# Altium footprint library PaHoy2.PcbLib: 16 footprints
Each footprint in its own frame and in the unit in brackets; x right, y up, seen from the top. Pads: shape width x height; smd on the part's side, far side on the other; paste and mask are expansions set on the pad; w line width, h text height; cw(c..) or ccw(c..) is an arc to the next point about the centre after c.
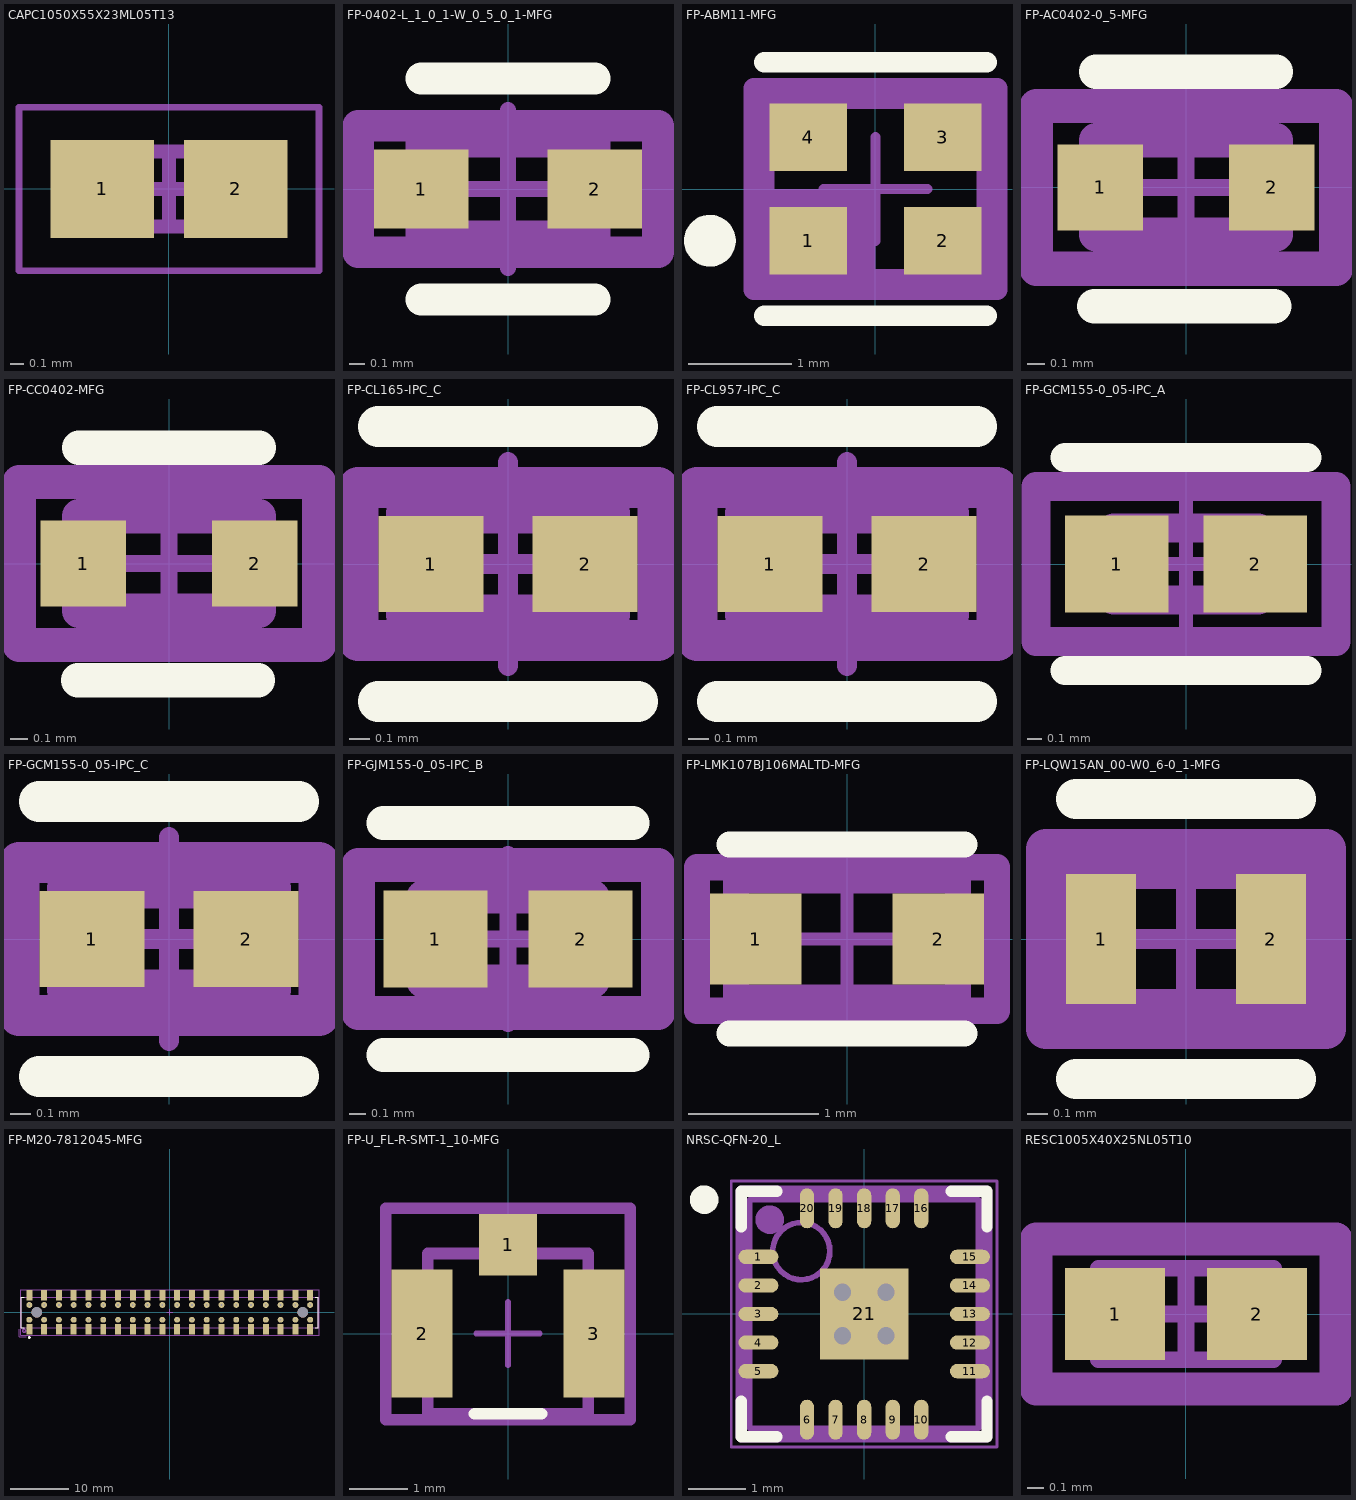
[diagram p0: the footprints below, top view; thin cyan lines are the x and y axes]

## CAPC1050X55X23ML05T13 [mm] "Chip Capacitor, 2-Leads, Body 1.05x0.55mm, IPC Low Density"
height 0.55
pads (2):
  rect 0.76x0.72 smd: 1(-0.49,0) 2(0.49,0)
Mechanical 13:
  lines w0.1: -0.525,-0.275 0.525,-0.275 0.525,0.275 -0.525,0.275 -0.525,-0.275
Mechanical 15:
  lines w0.05: -1.1,-0.6 1.1,-0.6 1.1,0.6 -1.1,0.6 -1.1,-0.6
  lines w0.1: -0.275,0 0.275,0 ; 0,-0.275 0,0.275
3D body: height 0.55, standoff 0, extent 0.295,-0.275 0.525,0.275
3D body: height 0.55, standoff 0, extent -0.525,-0.275 -0.295,0.275
3D body: height 0.55, standoff 0, extent -0.295,-0.275 0.295,0.275

## FP-0402-L_1_0_1-W_0_5_0_1-MFG [mm]
pads (2):
  rect 0.6x0.5 smd paste+0 mask+0: 1(-0.55,0) 2(0.55,0)
Top Overlay:
  lines w0.2: -0.55,-0.7 0.55,-0.7 ; -0.55,0.7 0.55,0.7
Top 3D Body:
  lines w0.2: -0.55,-0.3 0.55,-0.3 0.55,0.3 -0.55,0.3 -0.55,-0.3
Top Courtyard:
  lines w0.2: -0.95,-0.4 0.95,-0.4 0.95,0.4 -0.95,0.4 -0.95,-0.4
Top Assembly:
  lines w0.2: -0.95,-0.4 0.95,-0.4 0.95,0.4 -0.95,0.4 -0.95,-0.4
  text ".Designator" at -2.253,-0.213 h1
Top Component Center:
  lines w0.1: -0.5,0 0.5,0 ; 0,-0.5 0,0.5
3D body "Cap_AVX_04025C472KAT2A_eec.STEP": height 0.56, standoff 0, extent -0.5,-0.25 0.5,0.25

## FP-ABM11-MFG [mm]
pads (4):
  rect 0.75x0.65 smd paste+0 mask+0: 1(-0.65,-0.5) 2(0.65,-0.5) 3(0.65,0.5) 4(-0.65,0.5)
Top Overlay:
  circle w0.25: c-1.6,-0.5 r0.125
  lines w0.2: -1.075,-1.225 1.075,-1.225 ; -1.075,1.225 1.075,1.225
Top 3D Body:
  lines w0.2: -1.075,-0.875 1.075,-0.875 1.075,0.875 -1.075,0.875 -1.075,-0.875
Top Courtyard:
  lines w0.2: -1.175,-0.975 1.175,-0.975 1.175,0.975 -1.175,0.975 -1.175,-0.975
Top Assembly:
  circle w0.25: c-0.762,-0.508 r0.125
  lines w0.2: -1.175,-0.975 1.175,-0.975 1.175,0.975 -1.175,0.975 -1.175,-0.975
  text ".Designator" at -2.253,0.187 h1
Mechanical 13:
  rectangle: -1.175,-0.975 0,0
  lines w0.2: -1.175,-0.975 -1.175,0.975 1.175,0.975 1.175,-0.975 -1.175,-0.975
Top Component Center:
  lines w0.1: -0.5,0 0.5,0 ; 0,-0.5 0,0.5
3D body "Crys_Abracon_ABM11-44_000MHZ-B7G-T_eec.STEP": height 0.59, standoff 0, extent -1,-0.8 1,0.8

## FP-AC0402-0_5-MFG [mm]
pads (2):
  rect 0.5x0.5 smd paste+0 mask+0: 1(-0.5,0) 2(0.5,0)
Top Overlay:
  lines w0.2: -0.536,-0.693 0.514,-0.693 ; -0.525,0.675 0.525,0.675
Top 3D Body:
  lines w0.2: -0.525,-0.275 -0.525,0.275 0.525,0.275 0.525,-0.275 -0.525,-0.275
Top Courtyard:
  lines w0.2: -0.875,-0.475 -0.875,0.475 0.875,0.475 0.875,-0.475 -0.875,-0.475
Top Assembly:
  lines w0.2: -0.875,-0.475 -0.875,0.475 0.875,0.475 0.875,-0.475 -0.875,-0.475
  text ".Designator" at -2.253,-0.288 h1
Top Component Center:
  lines w0.1: -0.5,0 0.5,0 ; 0,-0.5 0,0.5
3D body "Cap_Yageo_AC0402KRX7R7BB471_eec.STEP": height 0.55, standoff 0, extent -0.5,-0.25 0.5,0.25

## FP-CC0402-MFG [mm]
pads (2):
  rect 0.5x0.5 smd paste+0 mask+0: 1(-0.5,0) 2(0.5,0)
Top Overlay:
  lines w0.2: -0.53,-0.681 0.52,-0.681 ; -0.525,0.675 0.525,0.675
Top 3D Body:
  lines w0.2: -0.525,-0.275 0.525,-0.275 0.525,0.275 -0.525,0.275 -0.525,-0.275
Top Courtyard:
  lines w0.2: -0.875,-0.475 0.875,-0.475 0.875,0.475 -0.875,0.475 -0.875,-0.475
Top Assembly:
  lines w0.2: -0.875,-0.475 0.875,-0.475 0.875,0.475 -0.875,0.475 -0.875,-0.475
  text ".Designator" at -2.253,-0.288 h1
Top Component Center:
  lines w0.1: -0.5,0 0.5,0 ; 0,-0.5 0,0.5
3D body "Cap_YAGEO_CC0402KRX7R9BB101_eec.STEP": height 0.55, standoff 0, extent -0.5,-0.25 0.5,0.25

## FP-CL165-IPC_C [mm]
pads (2):
  rect 0.515x0.472 smd paste+0 mask+0: 1(-0.379,0) 2(0.379,0)
Top Overlay:
  lines w0.2: -0.636,-0.675 0.636,-0.675 ; -0.636,0.675 0.636,0.675
Top 3D Body:
  lines w0.2: -0.5,-0.25 -0.5,0.25 0.5,0.25 0.5,-0.25 -0.5,-0.25
Top Courtyard:
  lines w0.2: -0.736,-0.375 -0.736,0.375 0.736,0.375 0.736,-0.375 -0.736,-0.375
Top Assembly:
  lines w0.2: -0.736,-0.375 -0.736,0.375 0.736,0.375 0.736,-0.375 -0.736,-0.375
  text ".Designator" at -2.253,-0.188 h1
Top Component Center:
  lines w0.1: -0.5,0 0.5,0 -0.5,0 ; 0,-0.5 0,0.5 0,-0.5
3D body "Cap_Samsung_CL05B103KB5NNNC_eec.STEP": height 0.55, standoff 0, extent -0.5,-0.25 0.5,0.25

## FP-CL957-IPC_C [mm]
pads (2):
  rect 0.515x0.472 smd paste+0 mask+0: 1(-0.379,0) 2(0.379,0)
Top Overlay:
  lines w0.2: -0.636,-0.675 0.636,-0.675 ; -0.636,0.675 0.636,0.675
Top 3D Body:
  lines w0.2: -0.5,-0.25 0.5,-0.25 0.5,0.25 -0.5,0.25 -0.5,-0.25
Top Courtyard:
  lines w0.2: -0.736,-0.375 0.736,-0.375 0.736,0.375 -0.736,0.375 -0.736,-0.375
Top Assembly:
  lines w0.2: -0.736,-0.375 0.736,-0.375 0.736,0.375 -0.736,0.375 -0.736,-0.375
  text ".Designator" at -2.253,-0.188 h1
Top Component Center:
  lines w0.1: -0.5,0 0.5,0 -0.5,0 ; 0,-0.5 0,0.5 0,-0.5
3D body "Cap_Samsung_CL05B102KB5NNNC_eec.STEP": height 0.55, standoff 0, extent -0.5,-0.25 0.5,0.25

## FP-GCM155-0_05-IPC_A [mm]
pads (2):
  rect 0.715x0.672 smd paste+0 mask+0: 1(-0.479,0) 2(0.479,0)
Top Overlay:
  lines w0.2: -0.836,-0.736 0.836,-0.736 ; -0.836,0.736 0.836,0.736
Top 3D Body:
  lines w0.2: -0.5,-0.25 0.5,-0.25 0.5,0.25 -0.5,0.25 -0.5,-0.25
Top Courtyard:
  lines w0.2: -1.036,-0.536 1.036,-0.536 1.036,0.536 -1.036,0.536 -1.036,-0.536
Top Assembly:
  lines w0.2: -1.036,-0.536 1.036,-0.536 1.036,0.536 -1.036,0.536 -1.036,-0.536
  text ".Designator" at -2.253,-0.194 h1
Top Component Center:
  lines w0.1: -0.5,0 0.5,0 ; 0,-0.5 0,0.5
3D body "Cap_Murata_GCM155R71H271KA37D_eec.STEP": height 0.55, standoff 0, extent -0.5,-0.25 0.5,0.25

## FP-GCM155-0_05-IPC_C [mm]
pads (2):
  rect 0.515x0.472 smd paste+0 mask+0: 1(-0.379,0) 2(0.379,0)
Top Overlay:
  lines w0.2: -0.636,-0.675 0.636,-0.675 ; -0.636,0.675 0.636,0.675
Top 3D Body:
  lines w0.2: -0.5,-0.25 0.5,-0.25 0.5,0.25 -0.5,0.25 -0.5,-0.25
Top Courtyard:
  lines w0.2: -0.736,-0.375 0.736,-0.375 0.736,0.375 -0.736,0.375 -0.736,-0.375
Top Assembly:
  lines w0.2: -0.736,-0.375 0.736,-0.375 0.736,0.375 -0.736,0.375 -0.736,-0.375
  text ".Designator" at -2.253,-0.188 h1
Top Component Center:
  lines w0.1: -0.5,0 0.5,0 ; 0,-0.5 0,0.5
3D body "Cap_Murata_GCM155R71H271KA37D_eec.STEP": height 0.55, standoff 0, extent -0.5,-0.25 0.5,0.25

## FP-GJM155-0_05-IPC_B [mm]
pads (2):
  rect 0.615x0.572 smd paste+0 mask+0: 1(-0.429,0) 2(0.429,0)
Top Overlay:
  lines w0.2: -0.736,-0.686 0.736,-0.686 ; -0.736,0.686 0.736,0.686
Top 3D Body:
  lines w0.2: -0.5,-0.25 0.5,-0.25 0.5,0.25 -0.5,0.25 -0.5,-0.25
Top Courtyard:
  lines w0.2: -0.886,-0.436 0.886,-0.436 0.886,0.436 -0.886,0.436 -0.886,-0.436
Top Assembly:
  lines w0.2: -0.886,-0.436 0.886,-0.436 0.886,0.436 -0.886,0.436 -0.886,-0.436
  text ".Designator" at -2.253,-0.249 h1
Top Component Center:
  lines w0.1: -0.5,0 0.5,0 ; 0,-0.5 0,0.5
3D body "Cap_Murata_GJM1551C1H7R0DB01D_eec.STEP": height 0.55, standoff 0, extent -0.5,-0.25 0.5,0.25

## FP-LMK107BJ106MALTD-MFG [mm]
pads (2):
  rect 0.7x0.7 smd paste+0 mask+0: 1(-0.7,0) 2(0.7,0)
Top Overlay:
  lines w0.2: -0.9,-0.725 0.9,-0.725 ; -0.9,0.725 0.9,0.725
Top 3D Body:
  lines w0.2: -0.85,-0.45 0.85,-0.45 0.85,0.45 -0.85,0.45 -0.85,-0.45
Top Courtyard:
  lines w0.2: -1.15,-0.55 1.15,-0.55 1.15,0.55 -1.15,0.55 -1.15,-0.55
Top Assembly:
  lines w0.2: -1.15,-0.55 1.15,-0.55 1.15,0.55 -1.15,0.55 -1.15,-0.55
  text ".Designator" at -0.508,-0.067 h1
Top Component Center:
  lines w0.1: -0.5,0 0.5,0 ; 0,-0.5 0,0.5
3D body "Cap_Taiyo_Yuden_LMK107BJ106MALTD_eec.STEP": height 0.9, standoff 0, extent -0.8,-0.4 0.8,0.4

## FP-LQW15AN_00-W0_6-0_1-MFG [mm]
pads (2):
  rect 0.35x0.65 smd paste+0 mask+0: 1(-0.425,0) 2(0.425,0)
Top Overlay:
  lines w0.2: -0.55,-0.7 0.55,-0.7 ; -0.55,0.7 0.55,0.7
Top 3D Body:
  lines w0.2: -0.55,-0.35 -0.55,0.35 0.55,0.35 0.55,-0.35 -0.55,-0.35
Top Courtyard:
  lines w0.2: -0.7,-0.45 -0.7,0.45 0.7,0.45 0.7,-0.45 -0.7,-0.45
Top Assembly:
  lines w0.2: -0.7,-0.45 -0.7,0.45 0.7,0.45 0.7,-0.45 -0.7,-0.45
  text ".Designator" at -2.253,-0.263 h1
Top Component Center:
  lines w0.1: -0.5,0 0.5,0 ; 0,-0.5 0,0.5
3D body "Ind_Murata_LQW15AN10NG00B_eec.STEP": height 0.6, standoff 0, extent -0.5,-0.3 0.5,0.3

## FP-M20-7812045-MFG [mm]
pads (82):
  rect 1.02x1.78 smd paste+0 mask+0: 1(-24.13,-2.91) 2(-24.13,2.91) 3(-21.59,-2.91) 4(-21.59,2.91) 5(-19.05,-2.91) 6(-19.05,2.91) 7(-16.51,-2.91) 8(-16.51,2.91) 9(-13.97,-2.91) 10(-13.97,2.91) 11(-11.43,-2.91) 12(-11.43,2.91) 13(-8.89,-2.91) 14(-8.89,2.91) 15(-6.35,-2.91) 16(-6.35,2.91) 17(-3.81,-2.91) 18(-3.81,2.91) 19(-1.27,-2.91) 20(-1.27,2.91) 21(1.27,-2.91) 22(1.27,2.91) 23(3.81,-2.91) 24(3.81,2.91) 25(6.35,-2.91) 26(6.35,2.91) 27(8.89,-2.91) 28(8.89,2.91) 29(11.43,-2.91) 30(11.43,2.91) 31(13.97,-2.91) 32(13.97,2.91) 33(16.51,-2.91) 34(16.51,2.91) 35(19.05,-2.91) 36(19.05,2.91) 37(21.59,-2.91) 38(21.59,2.91) 39(24.13,-2.91) 40(24.13,2.91)
  round 1.02 hole 0.3 paste-0.51 mask+0: ""(-24.13,-1.27) ""(-24.13,1.27) ""(-21.59,-1.27) ""(-21.59,1.27) ""(-19.05,-1.27) ""(-19.05,1.27) ""(-16.51,-1.27) ""(-16.51,1.27) ""(-13.97,-1.27) ""(-13.97,1.27) ""(-11.43,-1.27) ""(-11.43,1.27) ""(-8.89,-1.27) ""(-8.89,1.27) ""(-6.35,-1.27) ""(-6.35,1.27) ""(-3.81,-1.27) ""(-3.81,1.27) ""(-1.27,-1.27) ""(-1.27,1.27) ""(1.27,-1.27) ""(1.27,1.27) ""(3.81,-1.27) ""(3.81,1.27) ""(6.35,-1.27) ""(6.35,1.27) ""(8.89,-1.27) ""(8.89,1.27) ""(11.43,-1.27) ""(11.43,1.27) ""(13.97,-1.27) ""(13.97,1.27) ""(16.51,-1.27) ""(16.51,1.27) ""(19.05,-1.27) ""(19.05,1.27) ""(21.59,-1.27) ""(21.59,1.27) ""(24.13,-1.27) ""(24.13,1.27)
  round 1.8 hole 1.8 unplated paste-1000 mask+0: ""(-22.86,0) ""(22.86,0)
Top Overlay:
  circle w0.25: c-24.13,-4.345 r0.125
  lines w0.2: -25.015,-2.615 -25.55,-2.615 -25.55,2.615 -25.015,2.615 ; 25.015,-2.615 25.55,-2.615 25.55,2.615 25.015,2.615
Top 3D Body:
  lines w0.2: -25.55,-2.615 -25.55,2.615 25.55,2.615 25.55,-2.615 -25.55,-2.615
Top Courtyard:
  lines w0.2: -25.65,-3.9 -25.65,3.9 25.65,3.9 25.65,-3.9 -25.65,-3.9
Top Assembly:
  circle w0.254: c-25.019,-3.175 r0.254
  lines w0.1: -25.908,-2.921 -25.908,-4.191 -24.638,-4.191
  lines w0.2: -25.65,-3.9 -25.65,3.9 25.65,3.9 25.65,-3.9 -25.65,-3.9
  text ".Designator" at 0,0.187 h1
Top Component Center:
  lines w0.1: -0.5,0 0.5,0 ; 0,-0.5 0,0.5
3D body "Conn_Harwin_M20-7812045_eec.STEP": height 0.25, standoff 0, extent -25.65,-3.9 25.65,3.9

## FP-U_FL-R-SMT-1_10-MFG [mm]
pads (3):
  rect 1x1.05 smd paste-1000 mask+0: 1(0,1.525)
  rect 1.05x2.2 smd paste-1000 mask+0: 2(-1.475,0) 3(1.475,0)
Top Overlay:
  lines w0.2: -0.575,-1.375 0.575,-1.375
Top Paste:
  rectangle: -0.399,1.1 0.401,1.95
  rectangle: 1.05,-1 1.95,1
  rectangle: -1.95,-1 -1.05,1
Top 3D Body:
  lines w0.2: -1.375,-1.375 -1.375,1.375 1.375,1.375 1.375,-1.375 -1.375,-1.375
Top Courtyard:
  lines w0.2: -2.1,-1.475 -2.1,2.15 2.1,2.15 2.1,-1.475 -2.1,-1.475
Top Assembly:
  lines w0.2: -2.1,-1.475 -2.1,2.15 2.1,2.15 2.1,-1.475 -2.1,-1.475
  text ".Designator" at -2.253,0.187 h1
Top Component Center:
  lines w0.1: -0.544,0 0.544,0 ; 0,-0.544 0,0.544
3D body "Conn_HIROSE_U_FL-R-SMT-1_10_eec.STEP": height 1.45, standoff 0, extent -1.5,-1.55 1.5,1.55

## NRSC-QFN-20_L [mm] "QFN, 20-Leads, Body 4x4mm, Pitch 0.5mm, Thermal Pad 2.6x2.6mm, IPC High Density"
height 0.95
pads (21):
  oval 0.7x0.25 smd: 1(-1.85,1) 2(-1.85,0.5) 3(-1.85,0) 4(-1.85,-0.5) 5(-1.85,-1) 11(1.85,-1) 12(1.85,-0.5) 13(1.85,0) 14(1.85,0.5) 15(1.85,1)
  oval 0.25x0.7 smd: 6(-1,-1.85) 7(-0.5,-1.85) 8(0,-1.85) 9(0.5,-1.85) 10(1,-1.85) 16(1,1.85) 17(0.5,1.85) 18(0,1.85) 19(-0.5,1.85) 20(-1,1.85)
  rect 1.55x1.6 smd: 21(0,0)
via -0.381,-0.381 diameter 0.6 hole 0.3
via 0.381,-0.381 diameter 0.6 hole 0.3
via -0.381,0.381 diameter 0.6 hole 0.3
via 0.381,0.381 diameter 0.6 hole 0.3
Top Overlay:
  circle w0.25: c-2.8,2 r0.125
  lines w0.2: -2.15,-1.525 -2.15,-2.15 -1.525,-2.15 ; -2.15,1.525 -2.15,2.15 -1.525,2.15 ; 1.525,-2.15 2.15,-2.15 2.15,-1.525 ; 1.525,2.15 2.15,2.15 2.15,1.525
Top Assembly:
  circle w0.25: c-1.651,1.651 r0.125
  lines w0.2: -2.15,-2.15 -2.15,2.15 2.15,2.15 2.15,-2.15 -2.15,-2.15
  text ".Designator" at -2.253,-0.263 h1
Mechanical 13:
  circle w0.1: c-1.1,1.1 r0.5
  lines w0.1: -2,-2 -2,2 2,2 2,-2 -2,-2
Mechanical 15:
  lines w0.05: -2.325,-2.325 -2.325,2.325 2.325,2.325 2.325,-2.325 -2.325,-2.325
  lines w0.1: -0.5,0 0.5,0 ; 0,-0.5 0,0.5
3D body "QFN50P400X400X95_HS-21L.step": height 0.95, standoff 0, extent -2.001,-2.001 2.001,2.001

## RESC1005X40X25NL05T10 [mm] "Chip Resistor, 2-Leads, Body 1.00x0.50mm, IPC Medium Density"
height 0.4
pads (2):
  rect 0.6x0.55 smd: 1(-0.425,0) 2(0.425,0)
Top Assembly:
  lines w0.2: -0.9,-0.45 0.9,-0.45 0.9,0.45 -0.9,0.45 -0.9,-0.45
  text ".Designator" at -2.253,-0.263 h1
Mechanical 13:
  lines w0.1: -0.525,-0.275 0.525,-0.275 0.525,0.275 -0.525,0.275 -0.525,-0.275
Mechanical 15:
  lines w0.05: -0.9,-0.45 0.9,-0.45 0.9,0.45 -0.9,0.45 -0.9,-0.45
  lines w0.1: -0.275,0 0.275,0 ; 0,-0.275 0,0.275
3D body: height 0.4, standoff 0, extent 0.275,-0.275 0.525,0.275
3D body: height 0.4, standoff 0, extent -0.525,-0.275 -0.275,0.275
3D body: height 0.4, standoff 0, extent -0.275,-0.275 0.275,0.275